# EAGLE library part TDA7088 (library _mtvl_ic)
FM receiver circuit for battery supply
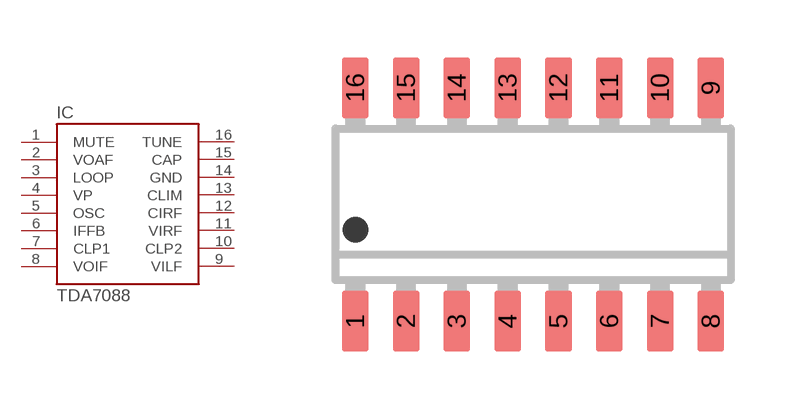
[diagram p59: symbol with the pads of SO16_; footprint SO16_]

Designator prefix IC

## TDA7088  [SO16_]
1  MUTE
2  VOAF
3  LOOP
4  VP
5  OSC
6  IFFB
7  CLP1
8  VOIF
9  VILF
10  CLP2
11  VIRF
12  CIRF
13  CLIM
14  GND
15  CAP
16  TUNE

## Footprint SO16_ (pad centres in mm)
SMALL OUTLINE INTEGRATED CIRCUIT body 3.9 mm/JEDEC MS-012AC
smd 0.66 x 1.524: 1 -4.445,-2.921; 2 -3.175,-2.921; 3 -1.905,-2.921; 4 -0.635,-2.921; 5 0.635,-2.921; 6 1.905,-2.921; 7 3.175,-2.921; 8 4.445,-2.921; 9 4.445,2.921; 10 3.175,2.921; 11 1.905,2.921; 12 0.635,2.921; 13 -0.635,2.921; 14 -1.905,2.921; 15 -3.175,2.921; 16 -4.445,2.921